# Altium footprint library Cuk_3ph_control.PcbLib: 43 footprints (part 3 of 3)
Each footprint in its own frame and in the unit in brackets; x right, y up, seen from the top. Pads: shape width x height; smd on the part's side, far side on the other; paste and mask are expansions set on the pad; w line width, h text height; cw(c..) or ccw(c..) is an arc to the next point about the centre after c.
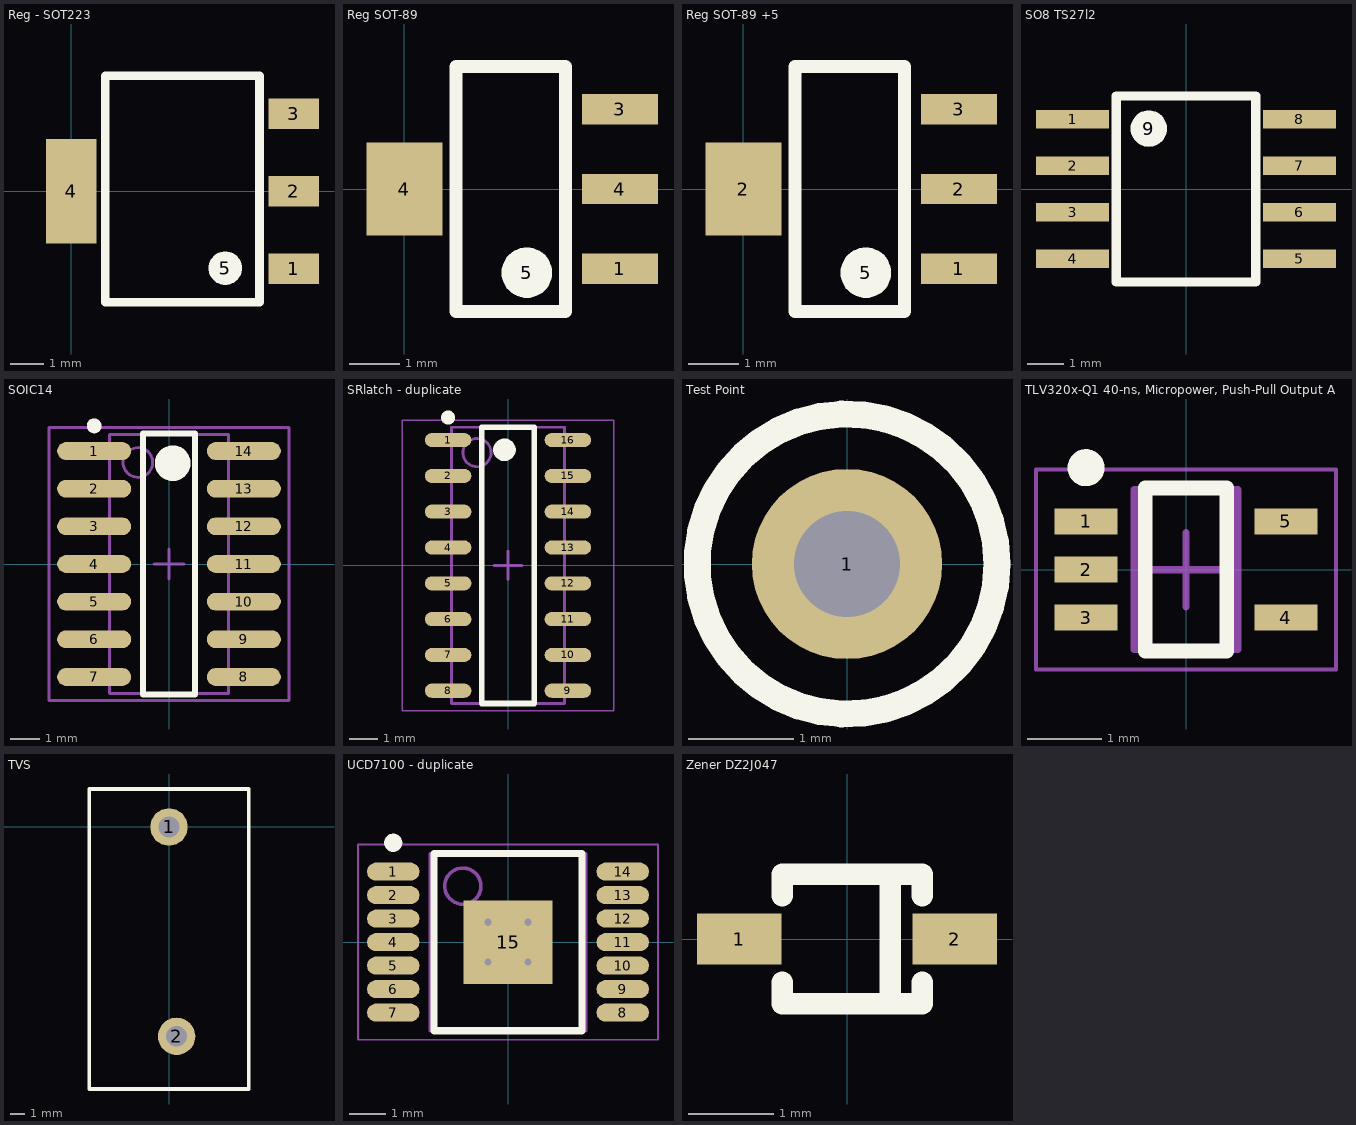
[diagram p2: the footprints below, top view; thin cyan lines are the x and y axes]

## Reg - SOT223 [mm]
pads (5):
  rect 1.5x0.9 smd: 1(6.604,-2.3) 2(6.604,0) 3(6.604,2.3)
  rect 1.5x3.1 smd: 4(0,0)
  round 1 on Top Overlay: 5(4.572,-2.286)
Top Overlay:
  lines w0.254: 1.016,-3.302 5.588,-3.302 5.588,3.429 1.016,3.429 1.016,-3.302

## Reg SOT-89 [mm]
pads (5):
  rect 1.5x0.6 smd: 1(4.25,-1.57) 3(4.25,1.57) 4(4.25,0)
  rect 1.5x1.83 smd: 4(0,0)
  round 1 on Top Overlay: 5(2.413,-1.651)
Top Overlay:
  lines w0.254: 1.016,-2.413 1.016,2.413 3.175,2.413 3.175,-2.413 1.016,-2.413

## Reg SOT-89 +5 [mm]
pads (5):
  rect 1.5x0.6 smd: 1(4.25,-1.57) 2(4.25,0) 3(4.25,1.57)
  rect 1.5x1.83 smd: 2(0,0)
  round 1 on Top Overlay: 5(2.413,-1.651)
Top Overlay:
  lines w0.254: 1.016,-2.413 1.016,2.413 3.175,2.413 3.175,-2.413 1.016,-2.413

## SO8 TS27l2 [mm]
pads (9):
  rect 2x0.5 smd: 1(-3.1,1.905) 2(-3.1,0.635) 3(-3.1,-0.635) 4(-3.1,-1.905) 5(3.1,-1.905) 6(3.1,-0.635) 7(3.1,0.635) 8(3.1,1.905)
  round 1 on Top Overlay: 9(-1.016,1.651)
Top Overlay:
  lines w0.254: -1.905,-2.54 1.905,-2.54 1.905,2.54 -1.905,2.54 -1.905,-2.54

## SOIC14 [mm]
pads (14):
  oval 2.5x0.6 smd: 1(-2.525,3.81) 2(-2.525,2.54) 3(-2.525,1.27) 4(-2.525,0) 5(-2.525,-1.27) 6(-2.525,-2.54) 7(-2.525,-3.81) 8(2.525,-3.81) 9(2.525,-2.54) 10(2.525,-1.27) 11(2.525,0) 12(2.525,1.27) 13(2.525,2.54) 14(2.525,3.81)
Top Overlay:
  circle w0.6: c0.125,3.4 r0.3
  circle w0.25: c-2.525,4.66 r0.125
  lines w0.2: -0.875,-4.4 0.875,-4.4 0.875,4.4 -0.875,4.4 -0.875,-4.4
Mechanical 13:
  circle w0.1: c-1.05,3.425 r0.5
  lines w0.1: -2,-4.375 2,-4.375 2,4.375 -2,4.375 -2,-4.375
Mechanical 15:
  lines w0.1: -0.5,0 0.5,0 ; 0,-0.5 0,0.5 ; -4.05,-4.6 4.05,-4.6 4.05,4.6 -4.05,4.6 -4.05,-4.6
3D body: height 1.75, standoff 0.1, extent -2,-4.375 2,4.375

## SRlatch - duplicate [mm] "SOIC, 16-Leads, Body 9.90x3.90mm, Pitch 1.27mm, IPC Medium Density"
height 1.75
pads (16):
  oval 1.65x0.5 smd: 1(-2.125,4.445) 2(-2.125,3.175) 3(-2.125,1.905) 4(-2.125,0.635) 5(-2.125,-0.635) 6(-2.125,-1.905) 7(-2.125,-3.175) 8(-2.125,-4.445) 9(2.125,-4.445) 10(2.125,-3.175) 11(2.125,-1.905) 12(2.125,-0.635) 13(2.125,0.635) 14(2.125,1.905) 15(2.125,3.175) 16(2.125,4.445)
Top Overlay:
  circle w0.4: c-0.125,4.1 r0.2
  circle w0.25: c-2.125,5.245 r0.125
  lines w0.2: -0.925,-4.9 0.925,-4.9 0.925,4.9 -0.925,4.9 -0.925,-4.9
Mechanical 13:
  circle w0.1: c-1.1,4 r0.5
  lines w0.1: -2,-4.9 2,-4.9 2,4.9 -2,4.9 -2,-4.9
Mechanical 15:
  lines w0.05: -3.75,-5.15 3.75,-5.15 3.75,5.15 -3.75,5.15 -3.75,-5.15
  lines w0.1: -0.5,0 0.5,0 ; 0,-0.5 0,0.5
3D body: height 1.75, standoff 0.1, extent -2,-4.9 2,4.9

## Test Point [mm]
pads (1):
  round 1.8 hole 1: 1(0,0)
Top Overlay:
  circle w0.254: c0,0 r1.42

## TLV320x-Q1 40-ns, Micropower, Push-Pull Output Automotive Comparators [mm] "SOT23, 5-Leads, Body 2.00x2.10mm, Pitch 0.65mm, IPC Medium Density"
height 1.1
pads (5):
  rect 0.85x0.35 smd: 1(-1.35,0.65) 2(-1.35,0) 3(-1.35,-0.65) 4(1.35,-0.65) 5(1.35,0.65)
Top Overlay:
  circle w0.25: c-1.35,1.375 r0.125
  lines w0.2: -0.55,-1.1 -0.55,1.1 0.55,1.1 0.55,-1.1 -0.55,-1.1
Mechanical 13:
  lines w0.1: -0.7,-1.075 0.7,-1.075 0.7,1.075 -0.7,1.075 -0.7,-1.075
Mechanical 15:
  lines w0.05: -2.025,-1.35 2.025,-1.35 2.025,1.35 -2.025,1.35 -2.025,-1.35
  lines w0.1: -0.5,0 0.5,0 ; 0,-0.5 0,0.5
3D body: height 1.1, standoff 0.1, extent -0.7,-1.075 0.7,1.075

## TVS [mm]
pads (2):
  round 2.5 hole 1.4: 1(0,0) 2(0.508,-14)
Top Overlay:
  lines w0.254: -5.334,-17.526 5.334,-17.526 5.334,2.54 -5.334,2.54 -5.334,2.032 -5.334,-17.526

## UCD7100 - duplicate [mm] "TSOP, 14-Leads, Body 5.00x4.40mm, Pitch 0.65mm, Thermal Pad 2.31.2x2.45.2mm, IPC Medium Density"
height 1.2
pads (15):
  oval 1.45x0.5 smd: 1(-3.175,1.95) 2(-3.175,1.3) 3(-3.175,0.65) 4(-3.175,0) 5(-3.175,-0.65) 6(-3.175,-1.3) 7(-3.175,-1.95) 8(3.175,-1.95) 9(3.175,-1.3) 10(3.175,-0.65) 11(3.175,0) 12(3.175,0.65) 13(3.175,1.3) 14(3.175,1.95)
  rect 2.45x2.31 smd: 15(0,0)
via -0.55,0.55 diameter 0.5 hole 0.2
via 0.55,0.55 diameter 0.5 hole 0.2
via -0.55,-0.55 diameter 0.5 hole 0.2
via 0.55,-0.55 diameter 0.5 hole 0.2
Top Overlay:
  circle w0.25: c-3.175,2.75 r0.125
  lines w0.2: -2.05,-2.45 -2.05,2.45 2.05,2.45 2.05,-2.45 -2.05,-2.45
Mechanical 13:
  circle w0.1: c-1.25,1.55 r0.5
  lines w0.1: -2.15,-2.45 -2.15,2.45 2.15,2.45 2.15,-2.45 -2.15,-2.45
Mechanical 15:
  lines w0.05: -4.15,-2.7 -4.15,2.7 4.15,2.7 4.15,-2.7 -4.15,-2.7
  lines w0.1: -0.5,0 0.5,0 ; 0,-0.5 0,0.5
3D body: height 1.2, standoff 0.25, extent -2.15,-2.45 2.15,2.45

## Zener DZ2J047 [mm]
height 0.7
pads (2):
  rect 1x0.6 smd: 1(-1.27,0) 2(1.27,0)
Top Overlay:
  lines w0.254: -0.762,-0.508 -0.762,-0.762 0.889,-0.762 0.889,-0.508 ; -0.762,0.508 -0.762,0.762 0.889,0.762 0.889,0.508 ; 0.508,-0.762 0.508,0.635